# Altium footprint library Leaded.pcblib: 24 footprints (part 1 of 2)
Each footprint in its own frame and in the unit in brackets; x right, y up, seen from the top. Pads: shape width x height; smd on the part's side, far side on the other; paste and mask are expansions set on the pad; w line width, h text height; cw(c..) or ccw(c..) is an arc to the next point about the centre after c.
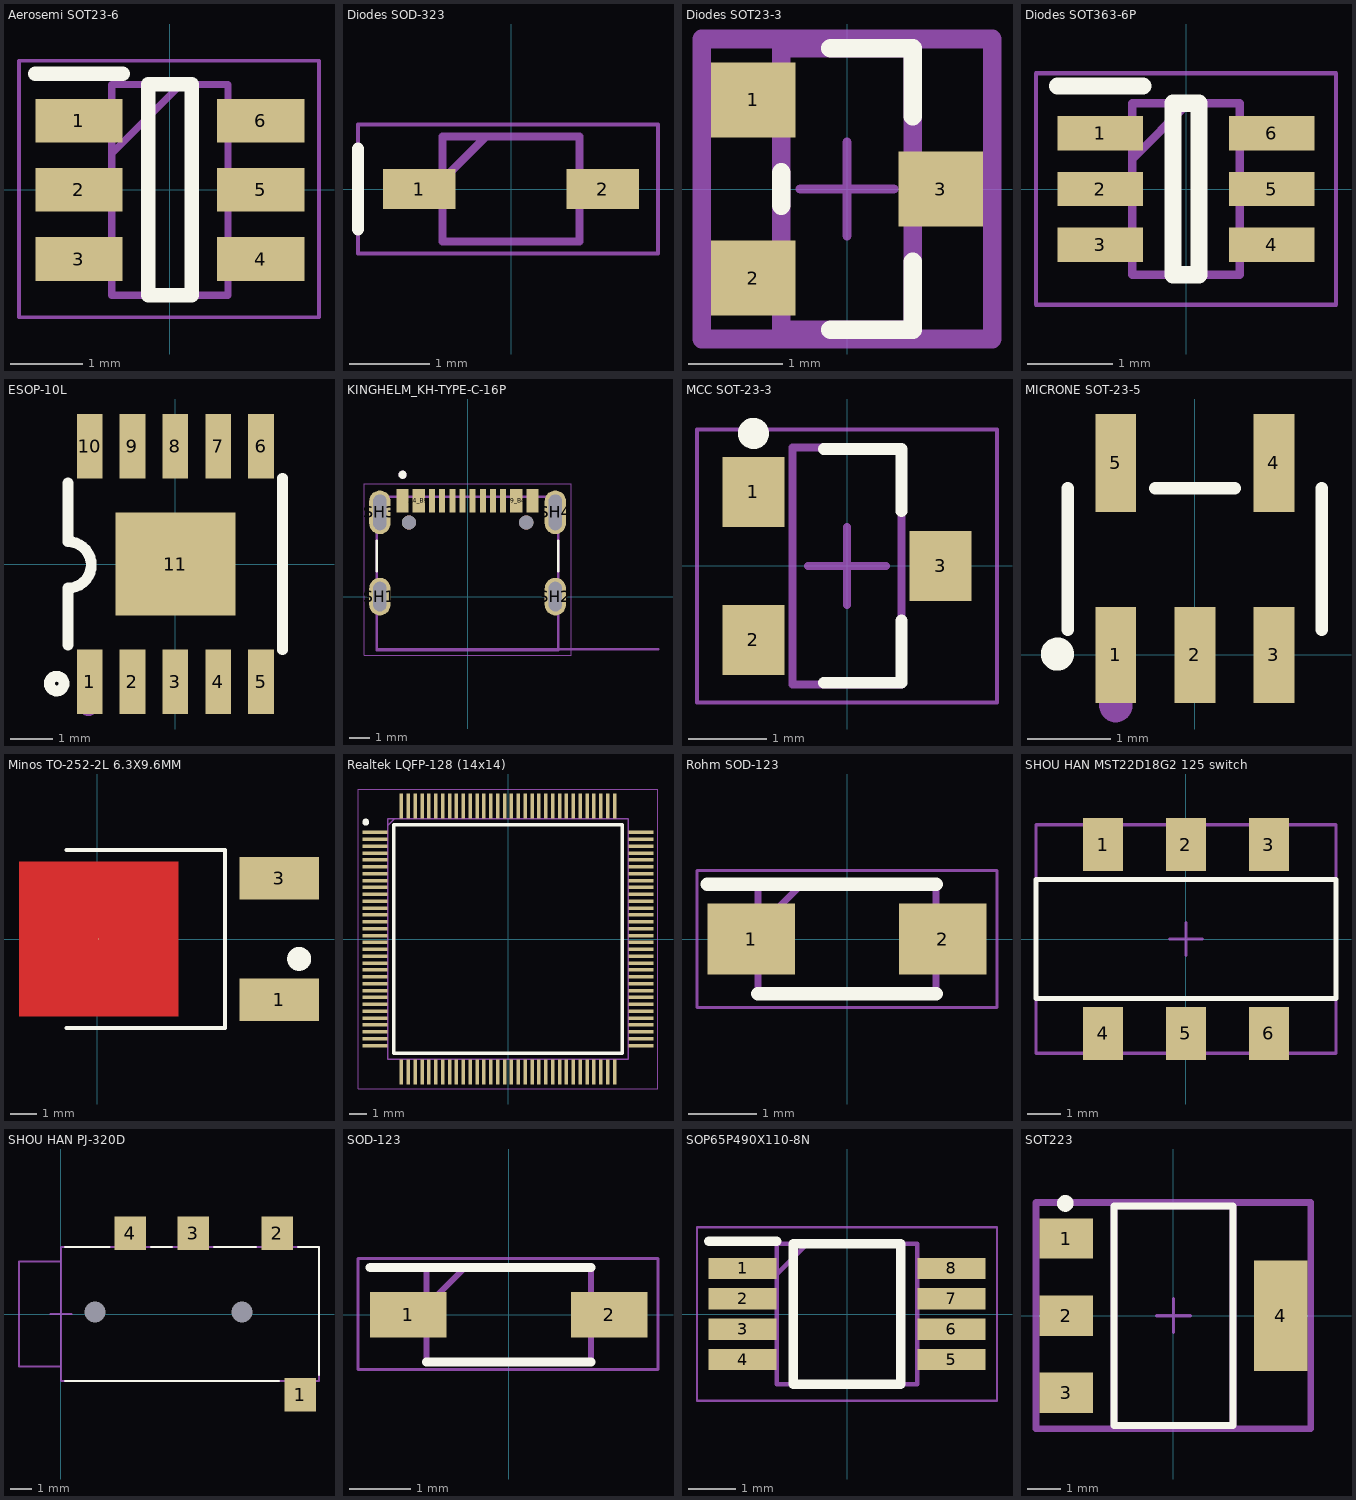
[diagram p0: the footprints below, top view; thin cyan lines are the x and y axes]

## Aerosemi SOT23-6 [mm] "SOT23-6"
height 1.45
pads (6):
  rect 1.2x0.6 smd: 1(-1.25,0.95) 2(-1.25,0) 3(-1.25,-0.95) 4(1.25,-0.95) 5(1.25,0) 6(1.25,0.95)
Top Overlay:
  lines w0.2: -1.85,1.6 -0.65,1.6 ; -0.3,-1.45 -0.3,1.45 0.3,1.45 0.3,-1.45 -0.3,-1.45
Mechanical 13:
  lines w0.1: -0.8,0.5 0.15,1.45 ; -0.8,-1.45 -0.8,1.45 0.8,1.45 0.8,-1.45 -0.8,-1.45
Mechanical 15:
  lines w0.05: -2.075,-1.75 -2.075,1.775 2.05,1.775 2.05,-1.75 -2.075,-1.75
3D body "FS312F-G.stp": height 1.45, standoff 0, extent -1.4,-1.45 1.4,1.45

## Diodes SOD-323 [mm]
pads (2):
  rect 0.9x0.5 smd paste-0.025 mask+0.1: 1(-1.137,0) 2(1.137,0)
Top Overlay:
  lines w0.15: -1.9,-0.5 -1.9,0.5
Mechanical 13:
  lines w0.1: -0.85,0.112 -0.312,0.65 ; -0.85,-0.65 -0.85,0.65 0.85,0.65 0.85,-0.65 -0.85,-0.65
Mechanical 15:
  lines w0.05: -1.9,-0.8 1.825,-0.8 1.825,0.8 -1.9,0.8 -1.9,-0.8
3D body "MMSZ5232BS-7-F.stp": height 1.2, standoff 0, extent -1.25,-0.65 1.25,0.65

## Diodes SOT23-3 [mm]
pads (3):
  rect 0.9x0.8 smd paste-0.033 mask+0.1: 1(-1,0.95) 2(-1,-0.95) 3(1,0)
Top Overlay:
  lines w0.2: -0.7,-0.175 -0.7,0.175 ; -0.175,-1.5 0.7,-1.5 0.7,-0.775 ; -0.175,1.5 0.7,1.5 0.7,0.775
Top 3D Body:
  lines w0.2: -0.7,-1.5 0.7,-1.5 0.7,1.5 -0.7,1.5 -0.7,-1.5
Top Component Center:
  lines w0.1: -0.5,0 0.5,0 ; 0,-0.5 0,0.5
Top Courtyard:
  lines w0.2: -1.55,-1.6 1.55,-1.6 1.55,1.6 -1.55,1.6 -1.55,-1.6
Top Assembly:
  lines w0.2: -1.55,-1.6 1.55,-1.6 1.55,1.6 -1.55,1.6 -1.55,-1.6
  text ".Designator" at -2.252,-0.226 h1
3D body "Trans_Diodes_Inc_DMN2004K-7_eec.STEP": height 0.25, standoff 0, extent -1.55,-1.6 1.55,1.6

## Diodes SOT363-6P [mm] "SOT363-6P"
pads (6):
  rect 1x0.4 smd: 1(-1,0.65) 2(-1,0) 3(-1,-0.65) 4(1,-0.65) 5(1,0) 6(1,0.65)
Top Overlay:
  lines w0.2: -1.5,1.2 -0.5,1.2 ; -0.15,-1 0.15,-1 0.15,1 -0.15,1 -0.15,-1
Mechanical 13:
  lines w0.1: -0.625,0.35 0.025,1 ; -0.625,-1 0.625,-1 0.625,1 -0.625,1 -0.625,-1
Mechanical 15:
  lines w0.05: -1.75,-1.35 1.75,-1.35 1.75,1.35 -1.75,1.35 -1.75,-1.35
3D body "MMDT4401Q-7-F.stp": height 1.1, standoff 0, extent -1.05,-1 1.05,1

## ESOP-10L [mm] "ESOP-10L"
pads (11):
  rect 0.6x1.5 smd paste-0.033 mask+0.1: 1(-2,-2.75) 2(-1,-2.75) 3(0,-2.75) 4(1,-2.75) 5(2,-2.75) 6(2,2.75) 7(1,2.75) 8(0,2.75) 9(-1,2.75) 10(-2,2.75)
  rect 2.8x2.4 smd paste-0.101 mask+0.1: 11(0,0)
Top Overlay:
  circle w0.254: c-2.77,-2.79 r0.171
  lines w0.254: -2.5,-0.563 ccw(c-2.504,-0.021) -2.5,0.52 ; -2.5,-1.887 -2.5,-0.564 ; -2.5,0.52 -2.5,1.887 ; 2.5,-2 2.5,2
Top Courtyard:
  circle w0.2: c-2.03,-3.35 r0.1
3D body "ESOP-10.STEP": height 1.63, standoff -0.03, extent -2.45,-2.74 2.45,2.74

## KINGHELM_KH-TYPE-C-16P [mm]
height 3.41
pads (18):
  rect 0.6x1.15 smd mask+0.05: A1_B12(-3.2,4.725) A4_B9(-2.4,4.725) A9_B4(2.4,4.725) A12_B1(3.2,4.725)
  rect 0.3x1.15 smd mask+0.05: A5(-1.25,4.725) A6(-0.25,4.725) A7(0.25,4.725) A8(1.25,4.725) B5(1.75,4.725) B6(0.75,4.725) B7(-0.75,4.725) B8(-1.75,4.725)
  oval 1.05x1.85 hole 0.65 slot 1.45 at 90 deg mask+0.05: SH1(-4.32,0) SH2(4.32,0)
  oval 1.05x2.15 hole 0.65 slot 1.75 at 90 deg mask+0.05: SH3(-4.32,4.15) SH4(4.32,4.15)
  round 0.7 hole 0.7 unplated: ""(-2.89,3.65) ""(2.89,3.65)
Top Overlay:
  circle w0.2: c-3.2,6 r0.1
  lines w0.127: -4.47,1.25 -4.47,2.75 ; 4.47,1.25 4.47,2.75
Mechanical 13:
  circle w0.2: c-3.2,6 r0.1
  lines w0.127: 9.375,-2.6 4.47,-2.6 ; -4.47,-2.6 -4.47,4.91 4.47,4.91 4.47,-2.6 ; -4.47,-2.6 -4.47,-2.64 4.47,-2.64 4.47,-2.6 ; -4.47,-2.6 4.47,-2.6
Mechanical 15:
  lines w0.05: -5.095,-2.89 5.095,-2.89 5.095,5.55 -5.095,5.55 -5.095,-2.89
3D body "USB Type C Port (SMD Type).STEP": height 3.22, standoff -0.98, extent -4.47,-2.6 4.47,5.3

## MCC SOT-23-3 [mm]
height 1.1
pads (3):
  rect 0.8x0.9 smd: 1(-1.2,0.95) 2(-1.2,-0.95) 3(1.2,0)
Top Overlay:
  circle w0.2: c-1.2,1.7 r0.1
  lines w0.15: -0.3,-1.5 0.7,-1.5 0.7,-0.7 ; -0.3,1.5 0.7,1.5 0.7,0.7
Top Courtyard:
  lines w0.05: -1.925,-1.75 1.925,-1.75 1.925,1.75 -1.925,1.75 -1.925,-1.75
Top Designator:
  lines w0.1: -0.5,0 0.5,0 ; 0,-0.5 0,0.5
Top Assembly:
  lines w0.1: -0.7,-1.52 0.7,-1.52 0.7,1.52 -0.7,1.52 -0.7,-1.52
3D body "SOT23-3.stp": height 1.2, standoff 0.02, extent -1.418,-1.5 1.418,1.5

## MICRONE SOT-23-5 [mm]
height 1.45
pads (5):
  rect 0.49x1.157 smd paste+0 mask+0.051: 1(-0.95,0) 2(0,0) 3(0.95,0)
  rect 0.49x1.175 smd paste+0 mask+0.051: 4(0.95,2.307) 5(-0.95,2.307)
Top Overlay:
  circle w0.2: c-1.651,0.011 r0.1
  lines w0.15: -1.526,0.303 -1.526,2.005 ; -0.476,2.005 0.476,2.005 ; 1.526,0.303 1.526,2.005
Mechanical 15:
  circle w0.2: c-0.95,-0.609 r0.1

## Minos TO-252-2L 6.3X9.6MM [mm]
height 2.5
pads (3):
  rect 3x1.6 smd paste-0.081 mask+0.1: 1(6.847,-2.285) 3(6.848,2.285)
  round 0.025 smd paste-0.26 mask+0.1: 2(0.05,0)
Top Layer:
  region: -2.95,2.9 -2.95,-2.9 3.05,-2.9 3.05,2.9
Top Overlay:
  circle w0.5: c7.6,-0.75 r0.2
  lines w0.152: -1.161,-3.346 4.807,-3.346 4.807,3.346 -1.161,3.346
Top 3D Body:
  lines w0.1: -0.5,0 0.5,0 ; 0,-0.5 0,0.5
Top Designator:
  text ".Designator" at -7.498,-0.5 h1.5
3D body "TO252 Gehäuse.step": height 2.3, standoff -0.05, extent -1.792,-3.25 6.908,3.25

## Realtek LQFP-128 (14x14) [mm]
pads (128):
  rect 1.475x0.2 smd: 1(-7.738,6.2) 2(-7.738,5.8) 3(-7.738,5.4) 4(-7.738,5) 5(-7.738,4.6) 6(-7.738,4.2) 7(-7.738,3.8) 8(-7.738,3.4) 9(-7.738,3) 10(-7.738,2.6) 11(-7.738,2.2) 12(-7.738,1.8) 13(-7.738,1.4) 14(-7.738,1) 15(-7.738,0.6) 16(-7.738,0.2) 17(-7.738,-0.2) 18(-7.738,-0.6) 19(-7.738,-1) 20(-7.738,-1.4) 21(-7.738,-1.8) 22(-7.738,-2.2) 23(-7.738,-2.6) 24(-7.738,-3) 25(-7.738,-3.4) 26(-7.738,-3.8) 27(-7.738,-4.2) 28(-7.738,-4.6) 29(-7.738,-5) 30(-7.738,-5.4) 31(-7.738,-5.8) 32(-7.738,-6.2) 65(7.738,-6.2) 66(7.738,-5.8) 67(7.738,-5.4) 68(7.738,-5) 69(7.738,-4.6) 70(7.738,-4.2) 71(7.738,-3.8) 72(7.738,-3.4) 73(7.738,-3) 74(7.738,-2.6) 75(7.738,-2.2) 76(7.738,-1.8) 77(7.738,-1.4) 78(7.738,-1) 79(7.738,-0.6) 80(7.738,-0.2) 81(7.738,0.2) 82(7.738,0.6) 83(7.738,1) 84(7.738,1.4) 85(7.738,1.8) 86(7.738,2.2) 87(7.738,2.6) 88(7.738,3) 89(7.738,3.4) 90(7.738,3.8) 91(7.738,4.2) 92(7.738,4.6) 93(7.738,5) 94(7.738,5.4) 95(7.738,5.8) 96(7.738,6.2)
  rect 0.2x1.475 smd: 33(-6.2,-7.738) 34(-5.8,-7.738) 35(-5.4,-7.738) 36(-5,-7.738) 37(-4.6,-7.738) 38(-4.2,-7.738) 39(-3.8,-7.738) 40(-3.4,-7.738) 41(-3,-7.738) 42(-2.6,-7.738) 43(-2.2,-7.738) 44(-1.8,-7.738) 45(-1.4,-7.738) 46(-1,-7.738) 47(-0.6,-7.738) 48(-0.2,-7.738) 49(0.2,-7.738) 50(0.6,-7.738) 51(1,-7.738) 52(1.4,-7.738) 53(1.8,-7.738) 54(2.2,-7.738) 55(2.6,-7.738) 56(3,-7.738) 57(3.4,-7.738) 58(3.8,-7.738) 59(4.2,-7.738) 60(4.6,-7.738) 61(5,-7.738) 62(5.4,-7.738) 63(5.8,-7.738) 64(6.2,-7.738) 97(6.2,7.738) 98(5.8,7.738) 99(5.4,7.738) 100(5,7.738) 101(4.6,7.738) 102(4.2,7.738) 103(3.8,7.738) 104(3.4,7.738) 105(3,7.738) 106(2.6,7.738) 107(2.2,7.738) 108(1.8,7.738) 109(1.4,7.738) 110(1,7.738) 111(0.6,7.738) 112(0.2,7.738) 113(-0.2,7.738) 114(-0.6,7.738) 115(-1,7.738) 116(-1.4,7.738) 117(-1.8,7.738) 118(-2.2,7.738) 119(-2.6,7.738) 120(-3,7.738) 121(-3.4,7.738) 122(-3.8,7.738) 123(-4.2,7.738) 124(-4.6,7.738) 125(-5,7.738) 126(-5.4,7.738) 127(-5.8,7.738) 128(-6.2,7.738)
Top Overlay:
  circle w0.2: c-8.275,6.8 r0.1
  lines w0.2: -6.65,-6.65 -6.65,6.65 6.65,6.65 6.65,-6.65 -6.65,-6.65
Mechanical 13:
  lines w0.1: -7,6.6 -6.6,7 ; -7,-7 -7,7 7,7 7,-7 -7,-7
Mechanical 15:
  lines w0.05: -8.725,-8.725 -8.725,8.725 8.725,8.725 8.725,-8.725 -8.725,-8.725
3D body "RTL8367S-CG.stp": height 1.6, standoff 0, extent -8,-8 8,8

## Rohm SOD-123 [mm]
pads (2):
  rect 1.28x1.04 smd: 1(-1.4,0) 2(1.4,0)
Top Overlay:
  lines w0.2: -2.04,0.8 1.3,0.8 ; -1.3,-0.8 1.3,-0.8
Mechanical 13:
  lines w0.1: -1.3,0.16 -0.66,0.8 ; -1.3,-0.8 1.3,-0.8 1.3,0.8 -1.3,0.8 -1.3,-0.8
Mechanical 15:
  lines w0.05: -2.19,-1 2.19,-1 2.19,1 -2.19,1 -2.19,-1
3D body "RF071MM2STFTR.stp": height 0.9, standoff 0, extent -1.75,-0.8 1.75,0.8

## SHOU HAN MST22D18G2 125 switch [mm]
pads (6):
  rect 1.2x1.6 smd: 1(-2.5,2.85) 2(0,2.85) 3(2.5,2.85) 4(-2.5,-2.85) 5(0,-2.85) 6(2.5,-2.85)
Top Overlay:
  lines w0.15: -4.525,-1.8 4.525,-1.8 4.525,1.8 -4.525,1.8 -4.525,-1.8
Top 3D Body:
  lines w0.1: -4.525,-3.45 -4.525,3.45 4.525,3.45 4.525,-3.45
Top Component Center:
  lines w0.1: -0.5,0 0.5,0 ; 0,-0.5 0,0.5
Top Designator:
  text ".Designator" at -4.998,-0.333 h1
Mechanical 13:
  lines w0.1: -4.525,-3.45 4.525,-3.45

## SHOU HAN PJ-320D [mm] "3.5mm jack"
pads (6):
  rect 1.5x1.6 smd: 1(11.4,-3.85) 2(10.3,3.85) 3(6.3,3.85) 4(3.3,3.85)
  round 0 hole 1 unplated: 14(1.62,0.1) 14(8.62,0.1)
Top Overlay:
  lines w0.1: 0.2,-3.2 10.4,-3.2 ; 0.2,3.2 2.3,3.2 ; 4.3,3.2 5.3,3.2 ; 7.3,3.2 9.3,3.2 ; 11.3,3.2 12.3,3.2 12.3,-2.9
Top 3D Body:
  lines w0.1: 0,-2.5 -2,-2.5 -2,2.5 0,2.5 ; 0,-3.2 0,3.2 12.3,3.2 12.3,-3.2 0,-3.2
Top Component Center:
  lines w0.1: -0.5,0 0.5,0 ; 0,-0.5 0,0.5
Top Designator:
  text ".Designator" at -4.998,-0.333 h1

## SOD-123 [mm]
pads (2):
  rect 1.25x0.75 smd: 1(-1.65,0) 2(1.65,0)
Top Overlay:
  lines w0.15: -2.275,0.775 1.35,0.775 ; -1.35,-0.775 1.35,-0.775
Top Designator:
  text ".Designator" at -4.998,-0.333 h1
Mechanical 13:
  lines w0.1: -1.35,0.15 -0.725,0.775 ; -1.35,-0.775 1.35,-0.775 1.35,0.775 -1.35,0.775 -1.35,-0.775
Mechanical 15:
  lines w0.05: -2.475,-0.9 2.45,-0.9 2.45,0.925 -2.475,0.925 -2.475,-0.9
3D body "BZT52B15-E3-18.stp": height 1.35, standoff 0, extent -1.85,-0.775 1.85,0.775

## SOP65P490X110-8N [mm]
pads (8):
  rect 1.45x0.45 smd: 1(-2.225,0.975) 2(-2.225,0.325) 3(-2.225,-0.325) 4(-2.225,-0.975) 5(2.225,-0.975) 6(2.225,-0.325) 7(2.225,0.325) 8(2.225,0.975)
Top Overlay:
  lines w0.2: -2.95,1.55 -1.5,1.55 ; -1.15,-1.5 1.15,-1.5 1.15,1.5 -1.15,1.5 -1.15,-1.5
Mechanical 15:
  lines w0.1: -1.5,0.85 -0.85,1.5 ; -1.5,-1.5 1.5,-1.5 1.5,1.5 -1.5,1.5 -1.5,-1.5
Bottom Assembly:
  lines w0.05: -3.2,-1.85 3.2,-1.85 3.2,1.85 -3.2,1.85 -3.2,-1.85

## SOT223 [mm]
pads (4):
  rect 1.6x1.2 smd paste+0 mask+0: 1(-3.2,2.3) 2(-3.2,0) 3(-3.2,-2.3)
  rect 1.6x3.3 smd paste+0 mask+0: 4(3.2,0)
Top Overlay:
  circle w0.25: c-3.225,3.35 r0.125
  lines w0.2: -1.775,-3.275 1.775,-3.275 1.775,3.275 -1.775,3.275 -1.775,-3.275
Top 3D Body:
  lines w0.2: -1.775,-3.275 1.775,-3.275 1.775,3.275 -1.775,3.275 -1.775,-3.275
Top Courtyard:
  lines w0.2: -4.1,-3.375 4.1,-3.375 4.1,3.375 -4.1,3.375 -4.1,-3.375
Top Designator:
  lines w0.1: -0.5,0 0.5,0 ; 0,-0.5 0,0.5
Top Assembly:
  lines w0.2: -4.1,-3.375 4.1,-3.375 4.1,3.375 -4.1,3.375 -4.1,-3.375
  text ".Designator" at 0,0.188 h1
3D body "IC_Diodes_AP1117E33G-13_eec.STEP": height 0.25, standoff 0, extent -4.1,-3.375 4.1,3.375